# EAGLE library part PIC16LF18424 (library ORBiT-IC-PIC)
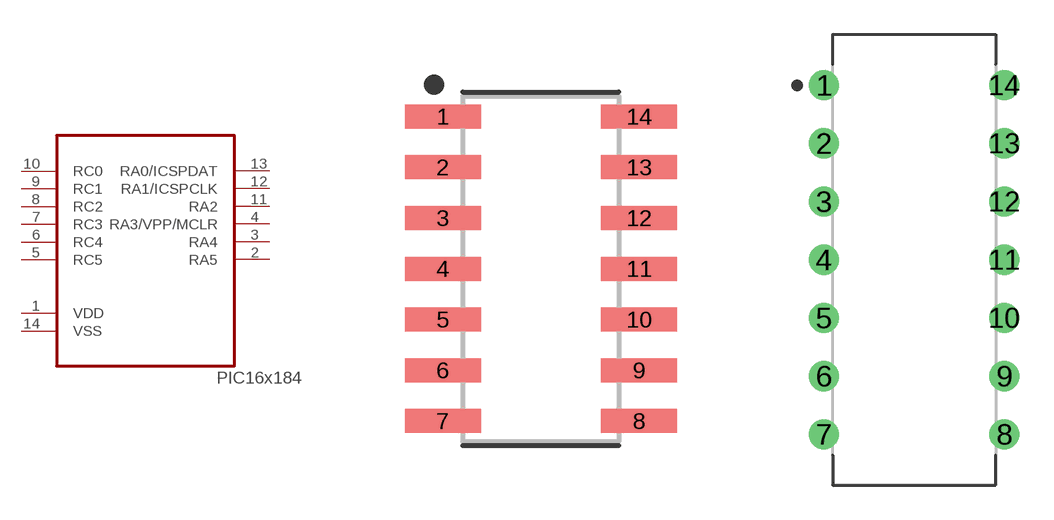
[diagram p0: symbol with the pads of 14-SOIC; footprints 14-SOIC, 14-PDIP]

Designator prefix -

## PIC16LF1842414-SOIC/PIC16LF  [14-SOIC]
1  VDD
2  RA5
3  RA4
4  RA3/VPP/MCLR
5  RC5
6  RC4
7  RC3
8  RC2
9  RC1
10  RC0
11  RA2
12  RA1/ICSPCLK
13  RA0/ICSPDAT
14  VSS

## PIC16LF1842414-PDIP/PIC16LF  [14-PDIP]
Pads as for 14-SOIC

## Footprint 14-SOIC (pad centres in mm)
14-SOIC, 1.27 mm pitch, 6.00 mm span, 8.65 X 3.90 X 1.75 mm body 14-pin SOIC package with 1.27 mm pitch, 6.00 mm span with body size 8.65 X 3.90 X 1.75 mm
smd 1.901 x 0.599: 1 -2.455,3.81; 2 -2.455,2.54; 3 -2.455,1.27; 4 -2.455,0; 5 -2.455,-1.27; 6 -2.455,-2.54; 7 -2.455,-3.81; 8 2.455,-3.81; 9 2.455,-2.54; 10 2.455,-1.27; 11 2.455,0; 12 2.455,1.27; 13 2.455,2.54; 14 2.455,3.81

## Footprint 14-PDIP (pad centres in mm)
14-DIP, 2.54 mm (0.10 in) pitch, 7.87 mm (0.31 in) span, 19.18 X 6.60 X 5.33 mm body 14-pin DIP package with 2.54 mm (0.10 in) pitch, 7.87 mm (0.31 in) span with body size 19.18 X 6.60 X 5.33 mm
drill 0.723 pad 1.323: 1 -3.937,7.62; 2 -3.937,5.08; 3 -3.937,2.54; 4 -3.937,0; 5 -3.937,-2.54; 6 -3.937,-5.08; 7 -3.937,-7.62; 8 3.937,-7.62; 9 3.937,-5.08; 10 3.937,-2.54; 11 3.937,0; 12 3.937,2.54; 13 3.937,5.08; 14 3.937,7.62